# EAGLE library part BGM220SC22HNA_ANTLOOP (library BGM220S)
BGM220SC22HNA EFR32BG22 Series 2 Modules
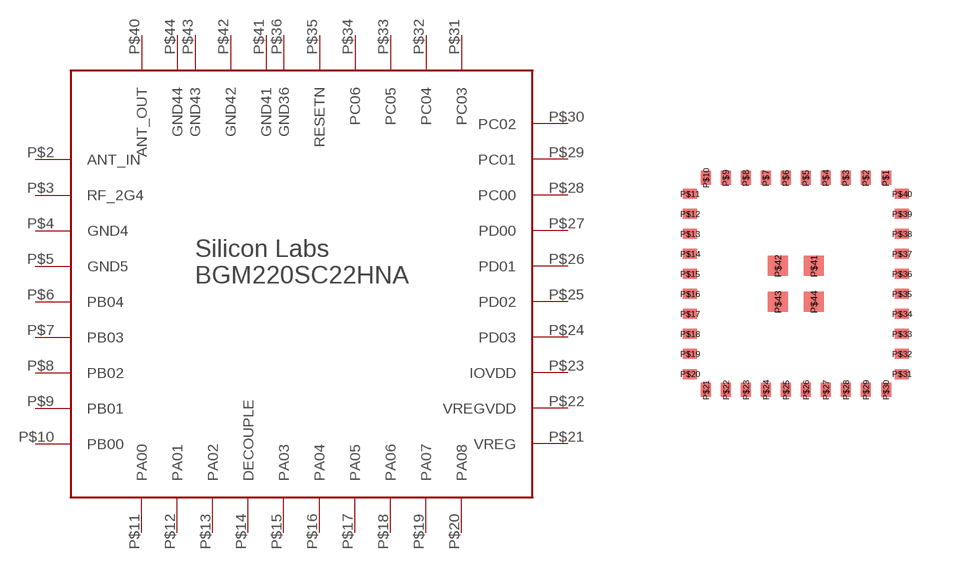
[diagram p3: symbol with the pads of BGM220SC22HNA_ANTLOOP; footprint BGM220SC22HNA_ANTLOOP]

Designator prefix -

## BGM220SC22HNA_ANTLOOP  [BGM220SC22HNA_ANTLOOP]
P$2  ANT_IN
P$3  RF_2G4
P$4  GND4
P$5  GND5
P$6  PB04
P$7  PB03
P$8  PB02
P$9  PB01
P$10  PB00
P$11  PA00
P$12  PA01
P$13  PA02
P$14  DECOUPLE
P$15  PA03
P$16  PA04
P$17  PA05
P$18  PA06
P$19  PA07
P$20  PA08
P$21  VREG
P$22  VREGVDD
P$23  IOVDD
P$24  PD03
P$25  PD02
P$26  PD01
P$27  PD00
P$28  PC00
P$29  PC01
P$30  PC02
P$31  PC03
P$32  PC04
P$33  PC05
P$34  PC06
P$35  RESETN
P$36  GND36
P$40  ANT_OUT
P$41  GND41
P$42  GND42
P$43  GND43
P$44  GND44

## Footprint BGM220SC22HNA_ANTLOOP (pad centres in mm)
smd 0.25 x 0.35: P$1 2.25,2.65; P$2 1.75,2.65; P$3 1.25,2.65; P$4 0.75,2.65; P$5 0.25,2.65; P$6 -0.25,2.65; P$7 -0.75,2.65; P$8 -1.25,2.65; P$9 -1.75,2.65; P$10 -2.25,2.65; P$21 -2.25,-2.65; P$22 -1.75,-2.65; P$23 -1.25,-2.65; P$24 -0.75,-2.65; P$25 -0.25,-2.65; P$26 0.25,-2.65; P$27 0.75,-2.65; P$28 1.25,-2.65; P$29 1.75,-2.65; P$30 2.25,-2.65
smd 0.35 x 0.25: P$11 -2.65,2.25; P$12 -2.65,1.75; P$13 -2.65,1.25; P$14 -2.65,0.75; P$15 -2.65,0.25; P$16 -2.65,-0.25; P$17 -2.65,-0.75; P$18 -2.65,-1.25; P$19 -2.65,-1.75; P$20 -2.65,-2.25; P$31 2.65,-2.25; P$32 2.65,-1.75; P$33 2.65,-1.25; P$34 2.65,-0.75; P$35 2.65,-0.25; P$36 2.65,0.25; P$37 2.65,0.75; P$38 2.65,1.25; P$39 2.65,1.75; P$40 2.65,2.25
smd 0.5 x 0.5: P$41 0.45,0.45; P$42 -0.45,0.45; P$43 -0.45,-0.45; P$44 0.45,-0.45